# Altium schematic symbol library semiconductors.SchLib: 1 symbol
Pins are listed as number, name and electrical type; pins without a type are passive.

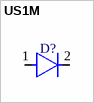
[diagram p0: symbol US1M]

## US1M
designator D?, comment DIODE STANDARD 1000V 1A DO214AC  (value not drawn)
Diode 1000 V 1A Surface Mount DO-214AC (SMA); Voltage - Forward (Vf) (Max) @ If: 1.7 V @ 1 A; Reverse Recovery Time (trr): 75 ns; Voltage - DC Reverse (Vr) (Max): 1000V; Package: DO-214AC, SMA; Operating Temperature - Junction: -50°C ~ 150°C; Current - Average Rectified (Io): 1A; Datasheet: https://diotec.com/request/datasheet/us1a.pdf
footprint SMA_DO-214AC (This is a packaging that's usual for SMD diodes.)
pins: 1, 2